# Altium footprint library 按键开关.PcbLib: 3 footprints
Each footprint in its own frame and in the unit in brackets; x right, y up, seen from the top. Pads: shape width x height; smd on the part's side, far side on the other; paste and mask are expansions set on the pad; w line width, h text height; cw(c..) or ccw(c..) is an arc to the next point about the centre after c.
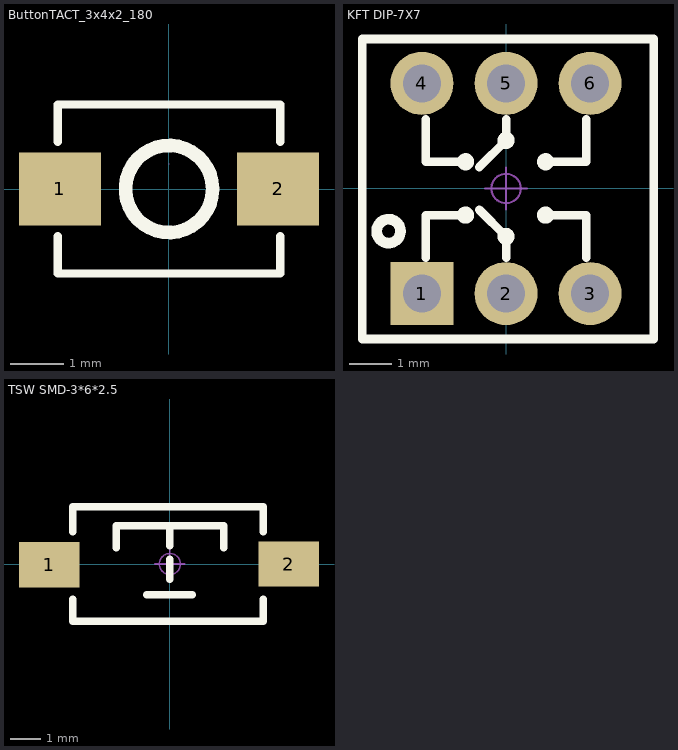
[diagram p0: the footprints below, top view; thin cyan lines are the x and y axes]

## ButtonTACT_3x4x2_180 [mm]
height 2
pads (2):
  rect 1.53x1.36 smd: 1(-2.029,0.001) 2(2.041,0.001)
Top Overlay:
  circle w0.254: c0.006,0.001 r0.813
  lines w0.152: -2.07,-0.882 -2.07,-1.575 2.082,-1.575 2.082,-0.882 ; -2.07,0.885 -2.07,1.578 2.082,1.578 2.082,0.885
Mechanical 15:
  lines w0.003: 0.006,0.477 0.006,0.477
3D body "20041.stp": height 1.6, standoff 0, extent -2,-1.25 2,1.25

## KFT DIP-7X7 [mm] "自锁开关，规格：7*7mm"
pads (6):
  rect 1.5x1.5 hole 0.9: 1(-2,-2.5)
  round 1.5 hole 0.9: 2(0,-2.5) 3(2,-2.5) 4(-2,2.5) 5(0,2.5) 6(2,2.5)
Top Overlay:
  circle w0.254: c-2.794,-1.016 r0.284
  circle w0.254: c0.94,0.635 r0.076
  circle w0.254: c-0.965,0.635 r0.076
  circle w0.254: c0,1.143 r0.076
  circle w0.254: c0,-1.143 r0.076
  circle w0.254: c-0.965,-0.635 r0.076
  circle w0.254: c0.94,-0.635 r0.076
  lines w0.203: -1.905,-1.651 -1.905,-0.635 -0.889,-0.635 ; -1.905,1.651 -1.905,0.635 -0.889,0.635 ; -0.635,-0.508 0,-1.143 0,-1.651 ; -0.635,0.508 0,1.143 0,1.651 ; 1.016,-0.635 1.905,-0.635 1.905,-1.651 ; 1.016,0.635 1.905,0.635 1.905,1.651 ; -3.42,-3.581 -3.42,3.556 3.514,3.556 3.514,2.54 3.514,-3.581 -3.42,-3.581
Mechanical 15:
  circle w0.05: c0,0 r0.35
  lines w0.05: -0.5,0 0.5,0 ; 0,-0.5 0,0.5
3D body "SLSW 7x7.STEP": height 11.2, standoff -3.2, extent -3.5,-3.5 3.5,3.5

## TSW SMD-3*6*2.5 [mm] "3*6*2.5mm"
pads (2):
  rect 2x1.5 smd: 1(-3.996,-0.02) 2(3.937,0)
Top Overlay:
  lines w0.254: -3.212,-1.168 -3.212,-1.9 3.088,-1.9 3.088,-1.168 ; -3.212,1.067 -3.212,1.9 3.088,1.9 3.088,1.067 ; -1.778,0.533 -1.778,1.27 1.778,1.27 1.778,0.533 ; -0.762,-1.016 0.737,-1.016 ; 0,-0.508 0,0.152 ; 0,0.61 0,1.27
Mechanical 15:
  circle w0.05: c0,0 r0.35
  lines w0.05: -0.5,0 0.5,0 ; 0,-0.5 0,0.5
3D body "TSW SMD-3x6x2.5.STEP": height 2.59, standoff -0.03, extent -4,-1.877 4,1.623